# Altium schematic symbol library AP66300QFVBW-13.Schlib: 1 symbol
Pins are listed as number, name and electrical type; pins without a type are passive.

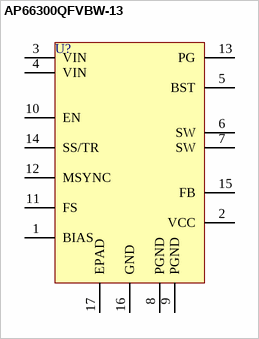
[diagram p0: symbol AP66300QFVBW-13]

## AP66300QFVBW-13
designator U?
3.8V TO 60V INPUT, 3A LOW IQ SYNCHRONOUS BUCK CONVERTER
pins: 1 BIAS (power), 2 VCC, 3 VIN (power), 4 VIN (power), 5 BST (power), 6 SW (power), 7 SW (power), 8 PGND (power), 9 PGND (power), 10 EN (power), 11 FS, 12 MSYNC, 13 PG, 14 SS/TR, 15 FB (power), 16 GND (power), 17 EPAD (power)